# Altium footprint library Connector_RJ45.PcbLib: 4 footprints
Each footprint in its own frame and in the unit in brackets; x right, y up, seen from the top. Pads: shape width x height; smd on the part's side, far side on the other; paste and mask are expansions set on the pad; w line width, h text height; cw(c..) or ccw(c..) is an arc to the next point about the centre after c.
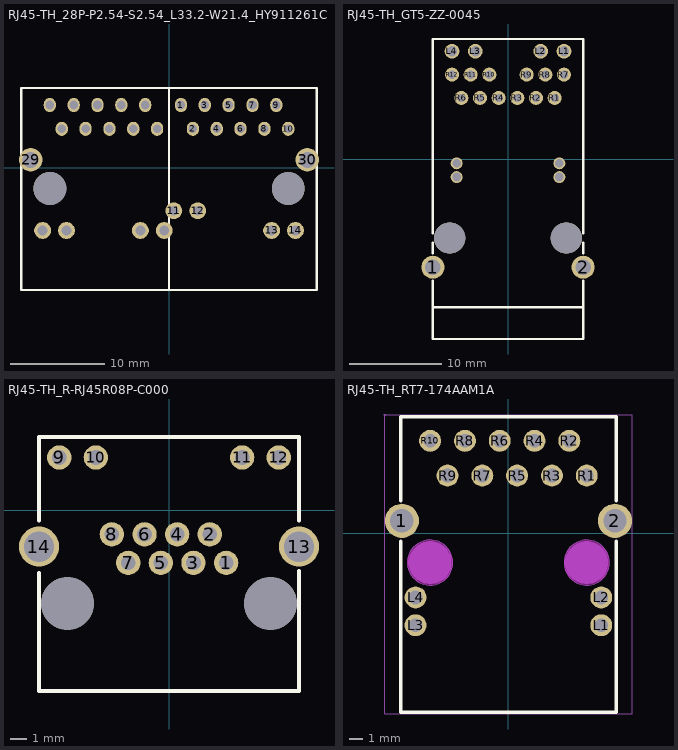
[diagram p0: the footprints below, top view; thin cyan lines are the x and y axes]

## RJ45-TH_28P-P2.54-S2.54_L33.2-W21.4_HY911261C [mm]
pads (32):
  oval 1.3x1.5 hole 0.914: 1(1.273,6.685) 2(2.543,4.145) 2(1)(-12.697,6.685) 2(2)(-11.427,4.145) 2(3)(-10.157,6.685) 2(4)(-8.887,4.145) 2(5)(-7.617,6.685) 2(6)(-6.347,4.145) 2(7)(-5.077,6.685) 2(8)(-3.807,4.145) 2(9)(-2.537,6.685) 2(10)(-1.267,4.145) 3(3.813,6.685) 4(5.083,4.145) 5(6.353,6.685) 6(7.623,4.145) 7(8.893,6.685) 8(10.163,4.145) 9(11.433,6.685) 10(12.703,4.145)
  round 1.8 hole 1.04: 2(11)(-13.467,-6.685) 2(12)(-10.927,-6.685) 2(13)(-3.048,-6.685) 2(14)(-0.508,-6.685) 11(0.513,-4.585) 12(3.053,-4.585) 13(10.932,-6.685) 14(13.472,-6.685)
  round 2.5 hole 1.702: 29(-14.732,0.846) 30(14.732,0.846)
  round 3.5 hole 3.5 unplated: ""(-12.697,-2.205) ""(12.703,-2.205)
Top Overlay:
  lines w0.254: -15.748,-13.024 -15.748,8.475 ; -15.748,8.496 15.752,8.496 ; -15.738,-13.024 15.762,-13.024 ; 0.002,-13.024 0.002,8.475 ; 15.752,-13.024 15.752,8.475

## RJ45-TH_GT5-ZZ-0045 [mm]
pads (24):
  round 2.5 hole 1.7: 1(-8.175,-11.745) 2(8.175,-11.745)
  round 1.6 hole 1.1: L1(6.095,11.745) L2(3.555,11.745) L3(-3.555,11.745) L4(-6.095,11.745)
  round 1.524 hole 0.914: R1(5.075,6.665) R2(3.045,6.665) R3(1.015,6.665) R4(-1.015,6.665) R5(-3.045,6.665) R6(-5.075,6.665) R7(6.09,9.205) R8(4.06,9.205) R9(2.03,9.205) R10(-2.03,9.205) R11(-4.06,9.205) R12(-6.09,9.205)
  round 1.3 hole 0.95: R13(5.59,-0.445) R14(-5.59,-0.445) R15(5.59,-1.945) R16(-5.59,-1.945)
  round 3.4 hole 3.4 unplated: ""(-6.35,-8.575) ""(6.35,-8.575)
Top Overlay:
  lines w0.254: -8.175,-16.121 8.175,-16.121 ; -8.175,-13.226 -8.175,-19.558 8.175,-19.558 8.175,-13.226 ; -8.175,-10.264 -8.175,-9.071 ; -8.175,-8.079 -8.175,13.081 8.175,13.081 8.175,-8.079 ; 8.175,-10.264 8.175,-9.071

## RJ45-TH_R-RJ45R08P-C000 [mil]
pads (16):
  round 60 hole 36: 1(140.55,-129.72) 2(100.39,-59.65) 3(60.23,-129.72) 4(20.08,-59.65) 5(-20.08,-129.72) 6(-60.24,-59.65) 7(-100.39,-129.72) 8(-140.55,-59.65) 9(-270.08,129.72) 10(-179.92,129.72) 11(179.92,129.72) 12(270.08,129.72)
  round 98.42 hole 74.8: 13(320.08,-89.57) 14(-320.08,-89.57)
  round 129.92 hole 129.92 unplated: ""(-250,-229.72) ""(250,-229.72)
Top Overlay:
  lines w10: -320.08,-25 -320.08,180 320.08,180 320.08,-25 ; -320,-155 -320,-445 320,-445 320,-150
Mechanical 15:
  circle w59.05: c250,-229.72 r29.53
  circle w59.05: c-250,-229.72 r29.53
3D body: height 515.75, standoff 0, extent -320,-445 320.08,180

## RJ45-TH_RT7-174AAM1A [mil]
pads (16):
  round 98.4 hole 66.9 mask+2: 1(-306.1,35) 2(306.1,35)
  round 63 hole 39.4 mask+2: L1(266.7,-265) L2(266.7,-185) L3(-266.7,-265) L4(-266.7,-185) R1(225,165) R2(175,265) R3(125,165) R4(75,265) R5(25,165) R6(-25,265) R7(-75,165) R8(-125,265) R9(-175,165) R10(-225,265)
Top Overlay:
  lines w10: -310,-23.1 -310,-515 310,-515 310,-23.1 ; -310,93.2 -310,334.6 310,334.6 ; 310,93.2 310,330
Keep-Out Layer:
  board cut-out: 290,-85 290,-78.6 287.5,-66.04 282.6,-54.21 275.49,-43.56 266.44,-34.51 255.79,-27.4 243.96,-22.5 231.4,-20 218.6,-20 206.04,-22.5 194.21,-27.4 183.56,-34.51 174.51,-43.56 167.4,-54.21 162.5,-66.04 160,-78.6 160,-85 160,-91.4 162.5,-103.96 167.4,-115.79 174.51,-126.44 183.56,-135.49 194.21,-142.6 206.04,-147.5 218.6,-150 231.4,-150 243.96,-147.5 255.79,-142.6 266.44,-135.49 275.49,-126.44 282.6,-115.79 287.5,-103.96 290,-91.4 290,-85
  board cut-out: -160,-85 -160,-78.6 -162.5,-66.04 -167.4,-54.21 -174.51,-43.56 -183.56,-34.51 -194.21,-27.4 -206.04,-22.5 -218.6,-20 -231.4,-20 -243.96,-22.5 -255.79,-27.4 -266.44,-34.51 -275.49,-43.56 -282.6,-54.21 -287.5,-66.04 -290,-78.6 -290,-85 -290,-91.4 -287.5,-103.96 -282.6,-115.79 -275.49,-126.44 -266.44,-135.49 -255.79,-142.6 -243.96,-147.5 -231.4,-150 -218.6,-150 -206.04,-147.5 -194.21,-142.6 -183.56,-135.49 -174.51,-126.44 -167.4,-115.79 -162.5,-103.96 -160,-91.4 -160,-85
Mechanical 1:
  circle w0.2: c225,-85 r65
  circle w0.2: c-225,-85 r65
Mechanical 15:
  drawing of 23 lines, arcs and shapes, not listed
3D body "3D_PCB1_2022-04-15.stp": height 606.28, standoff -157.5, extent -388.78,-512.81 388.78,335.61